# Altium footprint library temporary.PcbLib: 61 footprints (part 2 of 4)
Each footprint in its own frame and in the unit in brackets; x right, y up, seen from the top. Pads: shape width x height; smd on the part's side, far side on the other; paste and mask are expansions set on the pad; w line width, h text height; cw(c..) or ccw(c..) is an arc to the next point about the centre after c.
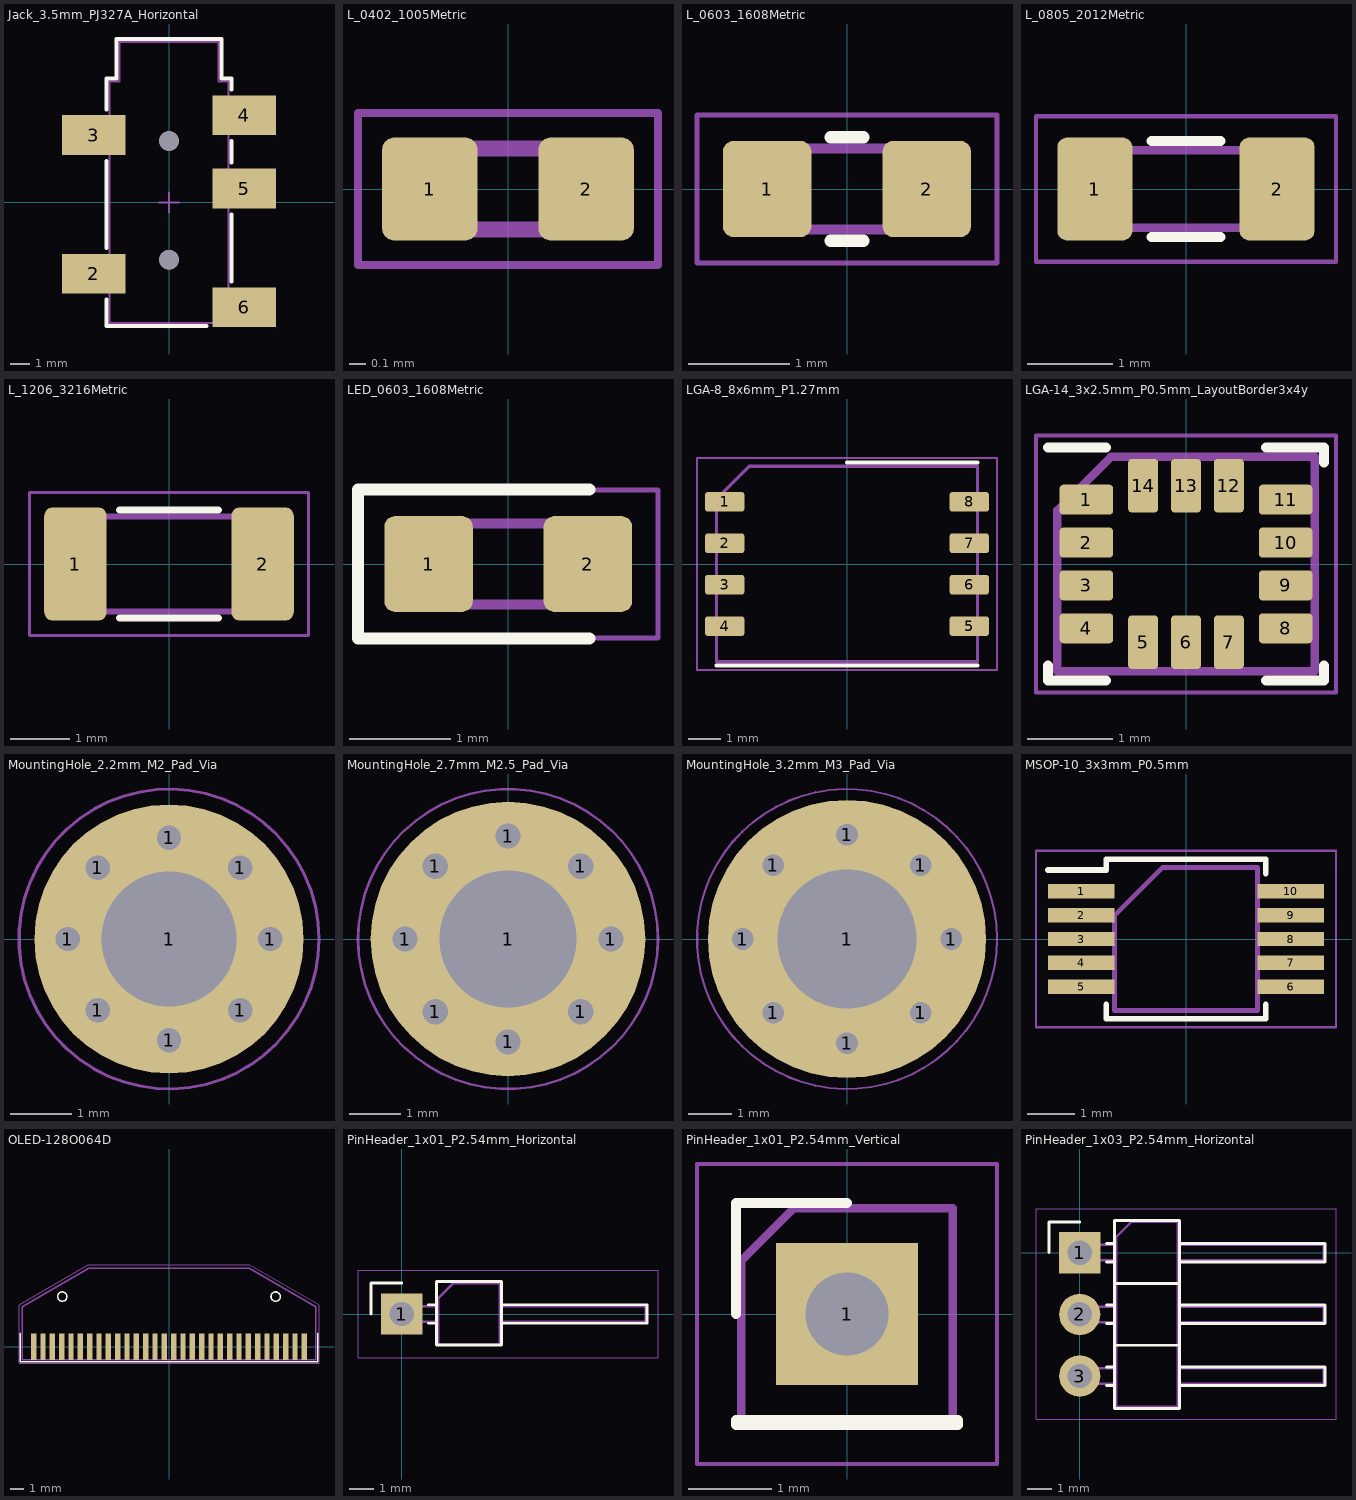
[diagram p1: the footprints below, top view; thin cyan lines are the x and y axes]

## Jack_3.5mm_PJ327A_Horizontal [mm]
height 4.5
pads (7):
  rect 3.2x2 smd: 2(-3.8,-3.6) 3(-3.8,3.4) 4(3.8,4.4) 5(3.8,0.7) 6(3.8,-5.3)
  round 1 hole 1 unplated: ""(0,-2.9) ""(0,3.1)
Top Overlay:
  lines w0.2: -3.15,-4.9 -3.15,-6.25 1.9,-6.25 ; -3.15,-2.3 -3.15,2.1 ; -3.15,4.7 -3.15,6.25 -2.65,6.25 -2.65,8.25 2.65,8.25 2.65,6.25 3.15,6.25 3.15,5.7 ; 3.15,-4 3.15,-0.6 ; 3.15,2 3.15,3.1
Mechanical 13:
  lines w0.1: -3,-6.1 3,-6.1 3,6.1 2.5,6.1 2.5,8.1 -2.5,8.1 -2.5,6.1 -3,6.1 -3,-6.1
Mechanical 15:
  lines w0.1: -0.5,0 0.5,0 ; 0,-0.5 0,0.5
3D body "PJ-327A.step": height 4.9, standoff -0.55, extent -4.5,-6.1 4.5,8.1

## L_0402_1005Metric [mm]
pads (2):
  rrect25% 0.59x0.64 smd: 1(-0.485,0) 2(0.485,0)
Mechanical 13:
  lines w0.1: -0.5,-0.25 0.5,-0.25 0.5,0.25 -0.5,0.25 -0.5,-0.25
Mechanical 15:
  lines w0.05: -0.93,-0.47 0.93,-0.47 0.93,0.47 -0.93,0.47 -0.93,-0.47
3D body "L_0402_1005Metric.step": height 0.5, standoff 0, extent -0.5,-0.25 0.5,0.25

## L_0603_1608Metric [mm]
pads (2):
  rrect25% 0.875x0.95 smd: 1(-0.787,0) 2(0.787,0)
Top Overlay:
  lines w0.12: -0.163,-0.51 0.163,-0.51 ; -0.163,0.51 0.163,0.51
Mechanical 13:
  lines w0.1: -0.8,-0.4 -0.8,0.4 0.8,0.4 0.8,-0.4 -0.8,-0.4
Mechanical 15:
  lines w0.05: -1.48,-0.73 -1.48,0.73 1.48,0.73 1.48,-0.73 -1.48,-0.73
3D body "L_0603_1608Metric.step": height 0.8, standoff 0, extent -0.8,-0.4 0.8,0.4

## L_0805_2012Metric [mm]
pads (2):
  rrect25% 0.875x1.2 smd: 1(-1.062,0) 2(1.062,0)
Top Overlay:
  lines w0.12: -0.4,-0.56 0.4,-0.56 ; -0.4,0.56 0.4,0.56
Mechanical 13:
  lines w0.1: -1,-0.45 -1,0.45 1,0.45 1,-0.45 -1,-0.45
Mechanical 15:
  lines w0.05: -1.75,-0.85 -1.75,0.85 1.75,0.85 1.75,-0.85 -1.75,-0.85
3D body "L_0805_2012Metric.step": height 1.25, standoff 0, extent -1,-0.625 1,0.625

## L_1206_3216Metric [mm]
pads (2):
  rrect25% 1.05x1.9 smd: 1(-1.575,0) 2(1.575,0)
Top Overlay:
  lines w0.12: -0.835,-0.91 0.835,-0.91 ; -0.835,0.91 0.835,0.91
Mechanical 13:
  lines w0.1: -1.6,-0.8 1.6,-0.8 1.6,0.8 -1.6,0.8 -1.6,-0.8
Mechanical 15:
  lines w0.05: -2.35,-1.2 2.35,-1.2 2.35,1.2 -2.35,1.2 -2.35,-1.2
3D body "L_1206_3216Metric.step": height 1.6, standoff 0, extent -1.6,-0.8 1.6,0.8

## LED_0603_1608Metric [mm]
pads (2):
  rrect25% 0.875x0.95 smd: 1(-0.787,0) 2(0.787,0)
Top Overlay:
  lines w0.12: 0.8,-0.735 -1.485,-0.735 -1.485,0.735 0.8,0.735
Mechanical 13:
  lines w0.1: -0.8,-0.4 0.8,-0.4 0.8,0.4 -0.5,0.4 -0.8,0.1 -0.8,-0.4
Mechanical 15:
  lines w0.05: -1.48,-0.73 1.48,-0.73 1.48,0.73 -1.48,0.73 -1.48,-0.73
3D body "LED_0603_1608Metric.step": height 1.1, standoff 0, extent -0.8,-0.4 0.8,0.4

## LGA-8_8x6mm_P1.27mm [mm]
pads (8):
  rrect25% 1.2x0.6 smd: 1(-3.75,1.905) 2(-3.75,0.635) 3(-3.75,-0.635) 4(-3.75,-1.905) 5(3.75,-1.905) 6(3.75,-0.635) 7(3.75,0.635) 8(3.75,1.905)
Top Overlay:
  lines w0.12: -4,-3.11 4,-3.11 ; 0,3.11 4,3.11
Mechanical 13:
  lines w0.1: -4,-3 4,-3 4,3 -3,3 -4,2 -4,-3
Mechanical 15:
  lines w0.05: -4.6,-3.25 -4.6,3.25 4.6,3.25 4.6,-3.25 -4.6,-3.25
3D body "LGA8C127P7X4_800X600X70.step": height 0.7, standoff 0, extent -4.11,-3 4.11,3

## LGA-14_3x2.5mm_P0.5mm_LayoutBorder3x4y [mm]
pads (14):
  rrect25% 0.625x0.35 smd: 1(-1.162,0.75) 2(-1.162,0.25) 3(-1.162,-0.25) 4(-1.162,-0.75) 8(1.162,-0.75) 9(1.162,-0.25) 10(1.162,0.25) 11(1.162,0.75)
  rrect25% 0.35x0.625 smd: 5(-0.5,-0.913) 6(0,-0.913) 7(0.5,-0.913) 12(0.5,0.913) 13(0,0.913) 14(-0.5,0.913)
Top Overlay:
  lines w0.12: -1.61,-1.185 -1.61,-1.36 -0.935,-1.36 ; -1.61,1.36 -0.935,1.36 ; 0.935,-1.36 1.61,-1.36 1.61,-1.185 ; 0.935,1.36 1.61,1.36 1.61,1.185
Mechanical 13:
  lines w0.1: -1.5,-1.25 1.5,-1.25 1.5,1.25 -0.875,1.25 -1.5,0.625 -1.5,-1.25
Mechanical 15:
  lines w0.05: -1.75,-1.5 -1.75,1.5 1.75,1.5 1.75,-1.5 -1.75,-1.5
3D body "LGA-14_3x2.5mm_P0.5mm_LayoutBorder3x4y.step": height 0.78, standoff 0, extent -1.5,-1.25 1.5,1.25

## MountingHole_2.2mm_M2_Pad_Via [mm]
pads (9):
  round 0.7 hole 0.4: 1(-1.65,0) 1(-1.167,-1.167) 1(-1.167,1.167) 1(0,-1.65) 1(0,1.65) 1(1.167,-1.167) 1(1.167,1.167) 1(1.65,0)
  round 4.4 hole 2.2: 1(0,0)
Mechanical 15:
  circle w0.05: c0,0 r2.45

## MountingHole_2.7mm_M2.5_Pad_Via [mm]
pads (9):
  round 0.8 hole 0.5: 1(-2.025,0) 1(-1.432,-1.432) 1(-1.432,1.432) 1(0,-2.025) 1(0,2.025) 1(1.432,-1.432) 1(1.432,1.432) 1(2.025,0)
  round 5.4 hole 2.7: 1(0,0)
Mechanical 15:
  circle w0.05: c0,0 r2.95

## MountingHole_3.2mm_M3_Pad_Via [mm]
pads (9):
  round 0.8 hole 0.5: 1(-2.4,0) 1(-1.697,-1.697) 1(-1.697,1.697) 1(0,-2.4) 1(0,2.4) 1(1.697,-1.697) 1(1.697,1.697) 1(2.4,0)
  round 6.4 hole 3.2: 1(0,0)
Mechanical 15:
  circle w0.05: c0,0 r3.45

## MSOP-10_3x3mm_P0.5mm [mm]
pads (10):
  rect 1.4x0.3 smd: 1(-2.2,1) 2(-2.2,0.5) 3(-2.2,0) 4(-2.2,-0.5) 5(-2.2,-1) 6(2.2,-1) 7(2.2,-0.5) 8(2.2,0) 9(2.2,0.5) 10(2.2,1)
Top Overlay:
  lines w0.12: -2.9,1.45 -1.675,1.45 -1.675,1.675 1.675,1.675 1.675,1.375 ; -1.675,-1.375 -1.675,-1.675 1.675,-1.675 1.675,-1.375
Mechanical 13:
  lines w0.1: -1.5,-1.5 -1.5,0.5 -0.5,1.5 1.5,1.5 1.5,-1.5 -1.5,-1.5
Mechanical 15:
  lines w0.05: -3.15,-1.85 -3.15,1.85 3.15,1.85 3.15,-1.85 -3.15,-1.85
3D body "MSOP-10_3x3mm_P0.5mm.step": height 0.95, standoff 0, extent -2.45,-1.5 2.45,1.5

## OLED-128O064D [mm]
pads (30):
  rect 0.4x2 smd: 1(-10.15,0) 2(-9.45,0) 3(-8.75,0) 4(-8.05,0) 5(-7.35,0) 6(-6.65,0) 7(-5.95,0) 8(-5.25,0) 9(-4.55,0) 10(-3.85,0) 11(-3.15,0) 12(-2.45,0) 13(-1.75,0) 14(-1.05,0) 15(-0.35,0) 16(0.35,0) 17(1.05,0) 18(1.75,0) 19(2.45,0) 20(3.15,0) 21(3.85,0) 22(4.55,0) 23(5.25,0) 24(5.95,0) 25(6.65,0) 26(7.35,0) 27(8.05,0) 28(8.75,0) 29(9.45,0) 30(10.15,0)
Top Overlay:
  circle w0.12: c8,3.75 r0.35
  circle w0.12: c-8,3.75 r0.35
  lines w0.12: -11.15,1 -11.15,-1.15 11.15,-1.15 11.15,1
Mechanical 13:
  lines w0.1: -11,-1 -11,3 -6,5.887 6,5.887 11,3 11,-1 -11,-1
Mechanical 15:
  lines w0.05: -11.25,-1.25 -11.25,3.14 -6.05,6.14 6.05,6.14 11.25,3.14 11.25,-1.25 -11.25,-1.25

## PinHeader_1x01_P2.54mm_Horizontal [mm]
pads (1):
  rect 1.7x1.7 hole 1: 1(0,0)
Top Overlay:
  lines w0.12: -1.27,0 -1.27,1.27 0,1.27 ; 1.11,-0.38 1.44,-0.38 ; 1.11,0.38 1.44,0.38 ; 4.1,-0.38 10.1,-0.38 10.1,0.38 4.1,0.38 ; 1.44,-1.27 1.44,1.33 4.1,1.33 4.1,-1.27 1.44,-1.27
Mechanical 13:
  lines w0.1: 1.5,-0.32 -0.32,-0.32 -0.32,0.32 1.5,0.32 ; 4.04,-0.32 10.04,-0.32 10.04,0.32 4.04,0.32 ; 1.5,-1.27 1.5,0.635 2.135,1.27 4.04,1.27 4.04,-1.27 1.5,-1.27
Mechanical 15:
  lines w0.05: -1.8,-1.8 -1.8,1.8 10.55,1.8 10.55,-1.8 -1.8,-1.8
3D body "PinHeader_1x01_P2.54mm_Horizontal.step": height 2.54, standoff -3, extent -0.32,-1.27 10.04,1.27

## PinHeader_1x01_P2.54mm_Vertical [mm]
pads (1):
  rect 1.7x1.7 hole 1: 1(0,0)
Top Overlay:
  lines w0.12: -1.33,0 -1.33,1.33 0,1.33 ; -1.33,-1.33 1.33,-1.33 1.33,-1.27 -1.33,-1.27 -1.33,-1.33
Mechanical 13:
  lines w0.1: -1.27,-1.27 -1.27,0.635 -0.635,1.27 1.27,1.27 1.27,-1.27 -1.27,-1.27
Mechanical 15:
  lines w0.05: -1.8,-1.8 1.8,-1.8 1.8,1.8 -1.8,1.8 -1.8,-1.8
3D body "PinHeader_1x01_P2.54mm_Vertical.step": height 8.54, standoff -3, extent -1.27,-1.27 1.27,1.27

## PinHeader_1x03_P2.54mm_Horizontal [mm]
pads (3):
  rect 1.7x1.7 hole 1: 1(0,0)
  round 1.7 hole 1: 2(0,-2.54) 3(0,-5.08)
Top Overlay:
  lines w0.12: -1.27,0 -1.27,1.27 0,1.27 ; 1.11,-5.46 1.44,-5.46 ; 1.11,-4.7 1.44,-4.7 ; 1.11,-2.92 1.44,-2.92 ; 1.11,-2.16 1.44,-2.16 ; 1.11,-0.38 1.44,-0.38 ; 1.11,0.38 1.44,0.38 ; 1.44,-3.81 4.1,-3.81 ; 1.44,-1.27 4.1,-1.27 ; 4.1,-5.46 10.1,-5.46 10.1,-4.7 4.1,-4.7 ; 4.1,-2.92 10.1,-2.92 10.1,-2.16 4.1,-2.16 ; 4.1,-0.38 10.1,-0.38 10.1,0.38 4.1,0.38 ; 1.44,-6.41 4.1,-6.41 4.1,1.33 1.44,1.33 1.44,-6.41
Mechanical 13:
  lines w0.1: 1.5,-5.4 -0.32,-5.4 -0.32,-4.76 1.5,-4.76 ; 1.5,-2.86 -0.32,-2.86 -0.32,-2.22 1.5,-2.22 ; 1.5,-0.32 -0.32,-0.32 -0.32,0.32 1.5,0.32 ; 4.04,-5.4 10.04,-5.4 10.04,-4.76 4.04,-4.76 ; 4.04,-2.86 10.04,-2.86 10.04,-2.22 4.04,-2.22 ; 4.04,-0.32 10.04,-0.32 10.04,0.32 4.04,0.32 ; 1.5,-6.35 4.04,-6.35 4.04,1.27 2.135,1.27 1.5,0.635 1.5,-6.35
Mechanical 15:
  lines w0.05: -1.8,-6.85 10.55,-6.85 10.55,1.8 -1.8,1.8 -1.8,-6.85
3D body "PinHeader_1x03_P2.54mm_Horizontal.step": height 2.54, standoff -3, extent -0.32,-6.35 10.04,1.27